# Altium schematic symbol library MyECG.SchLib: 7 symbols
Pins are listed as number, name and electrical type; pins without a type are passive.

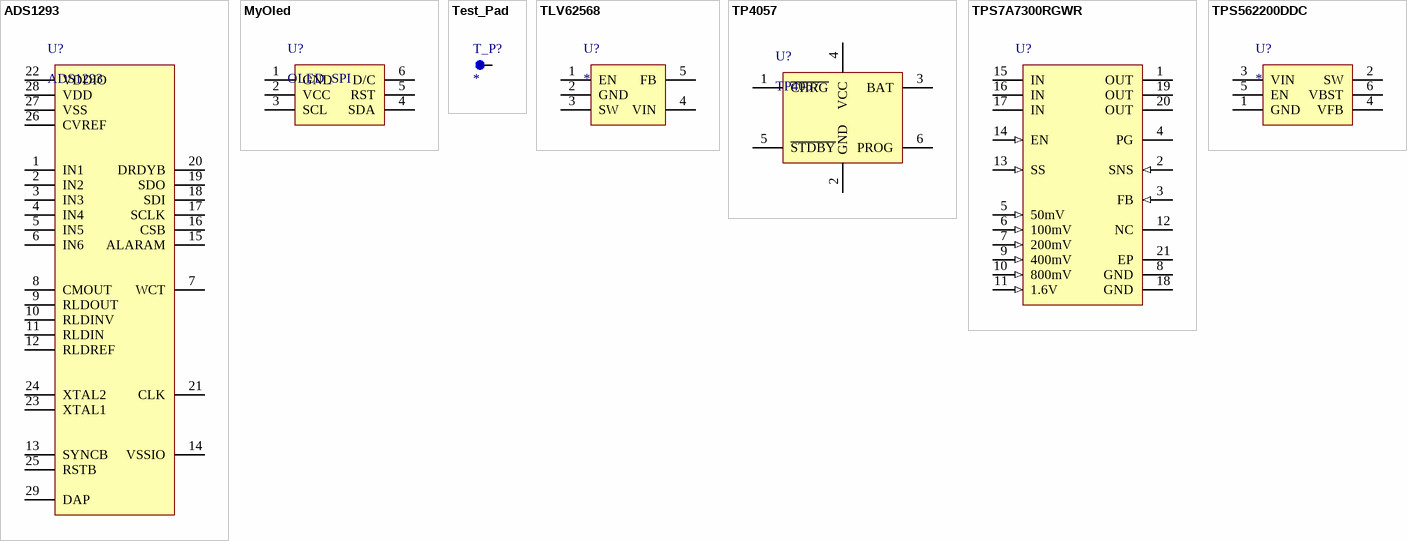
[diagram p0: symbols ADS1293 to TPS562200DDC]

## ADS1293
designator U?
footprint PCBFORADS1293
pins: 1 IN1, 2 IN2, 3 IN3, 4 IN4, 5 IN5, 6 IN6, 7 WCT, 8 CMOUT, 9 RLDOUT, 10 RLDINV, 11 RLDIN, 12 RLDREF, 13 SYNCB, 14 VSSIO, 15 ALARAM, 16 CSB, 17 SCLK, 18 SDI, 19 SDO, 20 DRDYB, 21 CLK, 22 VDDIO, 23 XTAL1, 24 XTAL2, 25 RSTB, 26 CVREF, 27 VSS, 28 VDD, 29 DAP

## MyOled
designator U?, comment OLED_SPI
footprint PcbForOled
pins: 1 GND, 2 VCC, 3 SCL, 4 SDA, 5 RST, 6 D/C

## Test_Pad
designator T_P?
footprint PCB_Test_Pad
pins: 1

## TLV62568
designator U?
footprint LC-SOT-23-5
pins: 1 EN, 2 GND, 3 SW, 4 VIN, 5 FB

## TP4057
designator U?
footprint Model Name (Footprint not found)
footprint LC-SOT-23-6
pins: 1 ~{CHRG}, 2 GND, 3 BAT, 4 VCC, 5 ~{STDBY}, 6 PROG

## TPS7A7300RGWR
designator U?
Single Output Fast-Transient LDO, 3 A, Adjustable 0.9 to 5 V Output, 1.5 to 6.5 V Input, 20-pin VQFN (RGW), -40 to 125 degC, Green (RoHS & no Sb/Br); Manufacturer: Texas Instruments; PartNumber: TPS7A7300RGWR; Accuracy(%): 2; Iout(Max)(A): 3; Iq(Typ)(mA): 0.01; Power Good: TRUE; SubFamily: Single Channel LDO; Vdo(Typ)(mV): 200; Vin(Max)(V): 6.5; Vin(Min)(V): 1.5; Vout Adj(Max)(V): 5; Vout Adj(Min)(V): 0.9; DatasheetVersion: SBVS190B; PackageReference: RGW20-3150X3150TP; PackageDescription: 20-Pin Plastic Quad Flat No-Pin, 5 x 5 mm Body, 0.65 mm Pitch, 3.15 x 3.15 mm Exposed Pad; Supplier 1: Digi-Key; Supplier Part Number 1: TPS7A7300RGWR-ND; Supplier 2: Newark; Supplier Part Number 2: 92T2401; Supplier 3: Mouser; Supplier Part Number 3: 595-TPS7A7300RGWR; Eco-Plan: Green (RoHS & no Sb/Br); Mounting Technology: Surface Mount; Code_JEDEC: MO-220; ComponentLink1Description: Manufacturer URL; ComponentLink1URL: http://www.ti.com/; ComponentLink2Description: Datasheet; ComponentLink2URL: http://www.ti.com/general/docs/lit/getliterature.tsp?genericPartNumber=TPS7A7300&fileType=pdf; ComponentLink3Description: Package Specification; ComponentLink3URL: http://www.ti.com/litv/pdf/mpqf122b
footprint TI-RGW20-3150X3150TP_V (QFN, 20-Leads, Body 5x5mm, Pitch 0.65mm, Thermal Pad 3.15x3.15mm)
pins: 1 OUT (power) "Regulated output pin. A 4.7-uF or larger capacitance is required for stability. See OUTPUT CAPACITOR REQUIREMENTS for more details.", 2 SNS (in) "Output voltage sense input pin. See the USER-CONFIGURABLE OUTPUT VOLTAGE and TRADITIONAL ADJUSTABLE CONFIGURATION sections for more details.", 3 FB (in) "Output voltage feedback pin. Connected to the error amplifier. See the USER-CONFIGURABLE OUTPUT VOLTAGE and TRADITIONAL ADJUSTABLE CONFIGURATION sections for more details.", 4 PG (hiz) "Active-high power good pin. An open-drain output that indicates when the output voltage reaches 90% of the target. See POWER GOOD for more details.", 5 50mV (in) "Output voltage setting pins. These pins should be connected to ground or left floating. Connecting these pins to ground increases the output voltage by the value of the pin name; multiple pins can be simultaneously connected (See Datasheet)", 6 100mV (in) "Output voltage setting pins. These pins should be connected to ground or left floating. Connecting these pins to ground increases the output voltage by the value of the pin name; multiple pins can be simultaneously connected (See Datasheet)", 7 200mV (in) "Output voltage setting pins. These pins should be connected to ground or left floating. Connecting these pins to ground increases the output voltage by the value of the pin name; multiple pins can be simultaneously connected (See Datasheet)", 8 GND (power) "Ground pin.", 9 400mV (in) "Output voltage setting pins. These pins should be connected to ground or left floating. Connecting these pins to ground increases the output voltage by the value of the pin name; multiple pins can be simultaneously connected (See Datasheet)", 10 800mV (in) "Output voltage setting pins. These pins should be connected to ground or left floating. Connecting these pins to ground increases the output voltage by the value of the pin name; multiple pins can be simultaneously connected (See Datasheet)", 11 1.6V (in) "Output voltage setting pins. These pins should be connected to ground or left floating. Connecting these pins to ground increases the output voltage by the value of the pin name; multiple pins can be simultaneously connected (See Datasheet)", 12 NC "Not internally connected. The NC pin is not connected to any electrical node. It is strongly recommended to connect this pin and the thermal pad to a large-area ground plane. See the Power Dissipation section for more (See Datasheet)", 13 SS (in) "Soft-start pin. Leaving this pin open provides soft-start of the default setting.Connecting an external capacitor between this pin and the ground enables the soft-start function by forming an RC-delay circuit in combination (See Datasheet)", 14 EN (in) "Enable pin. Driving this pin to logic high enables the device; driving the pin to logic low disables the device. See the ENABLE AND SHUTDOWN THE DEVICE section for more details.", 15 IN (power) "Unregulated supply voltage pin. It is recommended to connect an input capacitor to this pin. See INPUT CAPACITOR REQUIREMENTS for more details.", 16 IN (power) "Unregulated supply voltage pin. It is recommended to connect an input capacitor to this pin. See INPUT CAPACITOR REQUIREMENTS for more details.", 17 IN (power) "Unregulated supply voltage pin. It is recommended to connect an input capacitor to this pin. See INPUT CAPACITOR REQUIREMENTS for more details.", 18 GND (power) "Ground pin.", 19 OUT (power) "Regulated output pin. A 4.7-uF or larger capacitance is required for stability. See OUTPUT CAPACITOR REQUIREMENTS for more details.", 20 OUT (power) "Regulated output pin. A 4.7-uF or larger capacitance is required for stability. See OUTPUT CAPACITOR REQUIREMENTS for more details.", 21 EP (power) "It is strongly recommended to connect the thermal pad to a large-area ground plane. If available, connect an electrically-floating, dedicated thermal plane to the thermal pad as well."

## TPS562200DDC
designator U?
footprint LC-SOT-23-6
pins: 1 GND, 2 SW, 3 VIN, 4 VFB, 5 EN, 6 VBST